# Altium schematic symbol library osc_xtal_4p_1-3.Schlib: 1 symbol
Pins are listed as number, name and electrical type; pins without a type are passive.

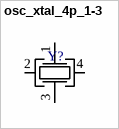
[diagram p0: symbol osc_xtal_4p_1-3]

## osc_xtal_4p_1-3
designator Y?  (value not drawn)
Crystal Oscilaltor, 4 pin, 1 & 3 connected, 2 & 4 floating
pins: 1, 2 GND, 3, 4 GND